# Altium schematic symbol library 2024-02-03_23-22-11.SchLib: 1 symbol
Pins are listed as number, name and electrical type; pins without a type are passive.

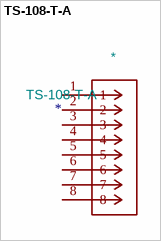
[diagram p0: symbol TS-108-T-A]

## TS-108-T-A
designator *  value TS-108-T-A
ki_fp_filters: CON8_1X8_TU_HTS_SAI; Footprint: CON8_1X8_TU_HTS_SAI; Supplier: TS-108-T-A; ki_keywords: TS-108-T-A
footprint CON8_1X8_TU_HTS_SAI
pins: 1, 2, 3, 4, 5, 6, 7, 8
1 alternate drawing of the same symbol